# Altium footprint library LPHS-08-16-L-VP1-GP.PcbLib: 9 footprints
Each footprint in its own frame and in the unit in brackets; x right, y up, seen from the top. Pads: shape width x height; smd on the part's side, far side on the other; paste and mask are expansions set on the pad; w line width, h text height; cw(c..) or ccw(c..) is an arc to the next point about the centre after c.
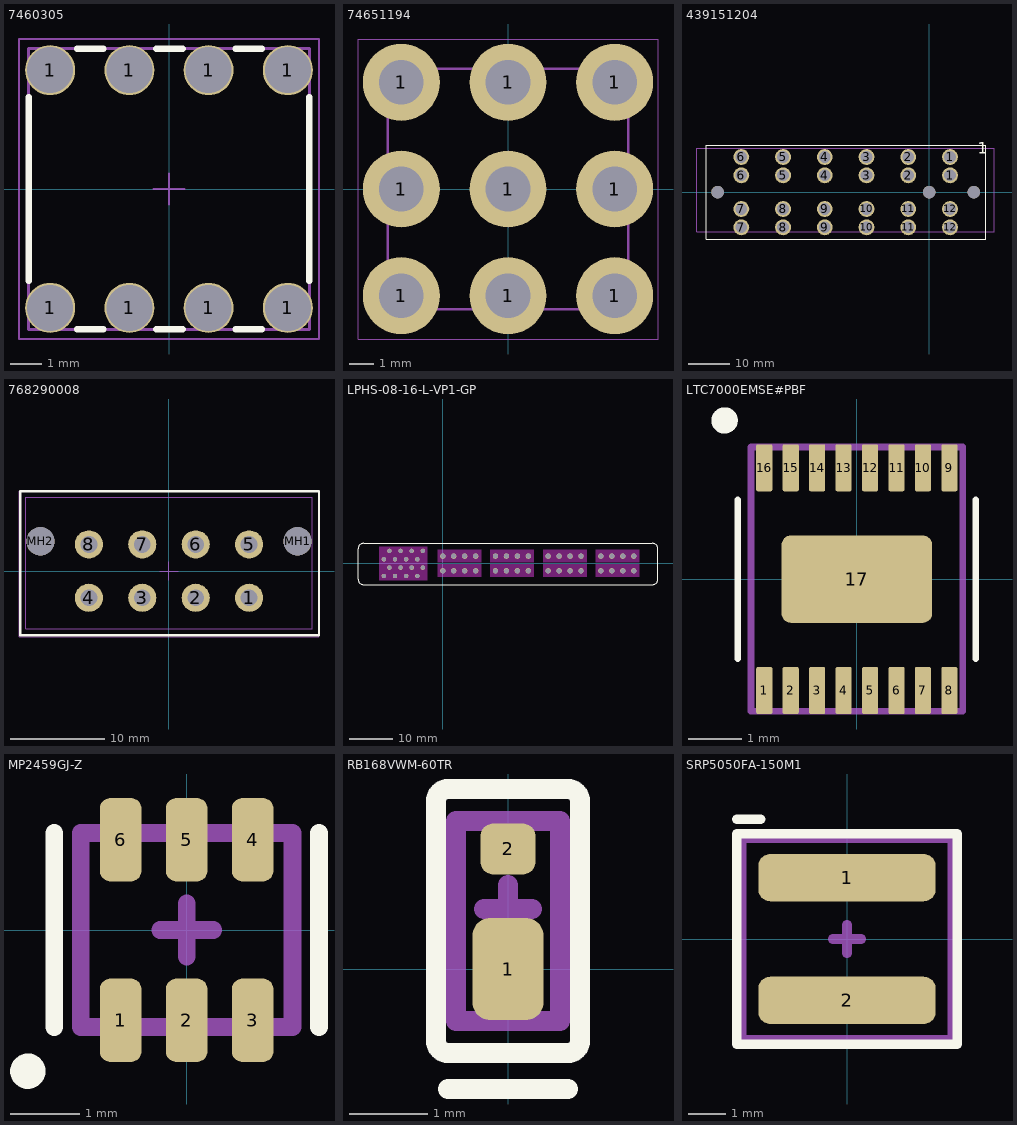
[diagram p0: the footprints below, top view; thin cyan lines are the x and y axes]

## 7460305 [mm] "WP-BUTR Bushes with two Rows Pin-Plate, M5, blind thr 6mm"
height 7
pads (8):
  round 1.6 hole 1.475: 1(-3.81,-3.81) 1(-3.81,3.81) 1(-1.27,-3.81) 1(-1.27,3.81) 1(1.27,-3.81) 1(1.27,3.81) 1(3.81,-3.81) 1(3.81,3.81)
Top Overlay:
  lines w0.2: -4.5,-2.95 -4.5,2.95 ; -2.95,-4.5 -2.1,-4.5 ; -2.95,4.5 -2.1,4.5 ; -0.41,-4.5 0.44,-4.5 ; -0.41,4.5 0.44,4.5 ; 2.13,-4.5 2.98,-4.5 ; 2.13,4.5 2.98,4.5 ; 4.5,-2.95 4.5,2.95
Mechanical 11:
  lines w0.1: -4.5,-4.5 4.5,-4.5 4.5,4.5 -4.5,4.5 -4.5,-4.5
  text ".Designator" at -1.75,-0.75 h1.5
Mechanical 13 (Mech13):
  lines w0.1: -4.5,-4.5 -4.5,4.5 4.5,4.5 4.5,-4.5 -4.5,-4.5
Mechanical 15:
  lines w0.05: -0.5,0 0.5,0 ; 0,-0.5 0,0.5 ; -4.81,-4.81 4.81,-4.81 4.81,4.81 -4.81,4.81 -4.81,-4.81
3D body "7460305.stp": height 7, standoff -3.5, extent -4.5,-4.5 4.5,4.5

## 74651194 [mm] "Shank, THR, 9 pins, 10x10mm, M4, thread 5mm"
height 8.5
pads (9):
  round 3.2 hole 1.85: 1(-4.435,-4.435) 1(-4.435,0) 1(-4.435,4.435) 1(0,-4.435) 1(0,0) 1(0,4.435) 1(4.435,-4.435) 1(4.435,0) 1(4.435,4.435)
Top Paste:
  drawing of 9 lines, arcs and shapes, not listed
Mechanical 11:
  lines w0.1: -5,-5 5,-5 5,5 -5,5 -5,-5
  text ".Designator" at -1.75,-0.75 h1.5
Mechanical 13 (Mech13):
  lines w0.1: -5,-5 -5,5 5,5 5,-5 -5,-5
Mechanical 15:
  lines w0.05: -0.5,0 0.5,0 ; 0,-0.5 0,0.5 ; -6.235,-6.235 6.235,-6.235 6.235,6.235 -6.235,6.235 -6.235,-6.235
3D body "74651194.stp": height 8.5, standoff -2.5, extent -5,-5 5,5

## 439151204 [mm]
pads (27):
  round 3.8 hole 2.8: 1(5,4.03) 1(5,8.43) 2(-5,4.03) 2(-5,8.43) 3(-15,4.03) 3(-15,8.43) 4(-25,4.03) 4(-25,8.43) 5(-35,4.03) 5(-35,8.43) 6(-45,4.03) 6(-45,8.43) 7(-45,-8.43) 7(-45,-4.03) 8(-35,-8.43) 8(-35,-4.03) 9(-25,-8.43) 9(-25,-4.03) 10(-15,-8.43) 10(-15,-4.03) 11(-5,-8.43) 11(-5,-4.03) 12(5,-8.43) 12(5,-4.03)
  round 3 hole 3 unplated: MH1(0,0) MH2(-50.71,0) MH2(10.7,0)
Top Overlay:
  lines w0.127: -53.467,-11.303 -53.467,11.303 13.589,11.303 13.589,-11.303 -53.467,-11.303
  text "1" at 11.684,8.255 h4.57
Mechanical 13 (Mech13):
  lines w0.127: -55.626,-9.525 15.621,-9.525 15.621,10.541 -55.626,10.541 -55.626,-9.525
3D body "439151204.stp": height 20.61, standoff -3.89, extent -55.65,-9.58 15.65,10.58

## 768290008 [mm]
pads (10):
  round 3 hole 1.8: 1(8.55,-2.85) 2(2.85,-2.85) 3(-2.85,-2.85) 4(-8.55,-2.85) 5(8.55,2.85) 6(2.85,2.85) 7(-2.85,2.85) 8(-8.55,2.85)
  round 3 hole 3 unplated: MH1(13.72,3.175) MH2(-13.72,3.175)
Top Overlay:
  lines w0.254: -15.875,-6.858 16.002,-6.858 16.002,8.509 -15.875,8.509 -15.875,-6.858
Mechanical 13 (Mech13):
  lines w0.127: -15.275,-6.152 15.256,-6.152 15.256,7.869 -15.275,7.869 -15.275,-6.152
Mechanical 15:
  lines w0.127: -1,0 0,0 ; 0,-1 0,0 ; 0,1 0,0 ; 1,0 0,0 ; -16,-7 16,-7 16,8.5 -16,8.5 -16,-7
3D body "768290008.stp": height 14.81, standoff -3.77, extent -15.242,-6.167 15.25,7.867

## LPHS-08-16-L-VP1-GP [mm]
pads (48):
  round 1 hole 0.92: 1(-13.42,-2.858) 2(-12.15,-0.953) 3(-10.88,-2.858) 4(-9.61,-0.953) 5(-8.34,-2.858) 6(-7.07,-0.953) 7(-5.8,-2.858) 8(-4.53,-0.953) 9(-13.42,0.953) 10(-12.15,2.857) 11(-10.88,0.953) 12(-9.61,2.857) 13(-8.34,0.953) 14(-7.07,2.857) 15(-5.8,0.953) 16(-4.53,2.857)
  round 1.22 hole 1.14: P01(0,-1.665) P01(2.5,-1.665) P01(5,-1.665) P01(7.5,-1.665) P02(0,1.665) P02(2.5,1.665) P02(5,1.665) P02(7.5,1.665) P03(12,-1.665) P03(14.5,-1.665) P03(17,-1.665) P03(19.5,-1.665) P04(12,1.665) P04(14.5,1.665) P04(17,1.665) P04(19.5,1.665) P05(24,-1.665) P05(26.5,-1.665) P05(29,-1.665) P05(31.5,-1.665) P06(24,1.665) P06(26.5,1.665) P06(29,1.665) P06(31.5,1.665) P07(36,-1.665) P07(38.5,-1.665) P07(41,-1.665) P07(43.5,-1.665) P08(36,1.665) P08(38.5,1.665) P08(41,1.665) P08(43.5,1.665)
Top Overlay:
  lines w0.254: -19.304,-3.556 ccw(c-18.034,-3.556) -18.034,-4.826 43.688,-4.826 47.752,-4.826 ccw(c47.752,-3.556) 49.022,-3.556 49.022,0.508 49.022,3.302 ccw(c47.752,3.302) 47.752,4.572 -14.478,4.572 -18.034,4.572 ccw(c-18.034,3.302) -19.304,3.302 -19.304,0.762 -19.304,-3.556
Keep-Out Layer:
  region: 34.857,-0.155 44.763,-0.155 44.763,-3.076 34.857,-3.076
  region: 34.857,3.175 44.763,3.175 44.763,0.254 34.857,0.254
  region: 22.857,-0.155 32.763,-0.155 32.763,-3.076 22.857,-3.076
  region: 22.857,3.175 32.763,3.175 32.763,0.254 22.857,0.254
  region: 10.857,3.175 20.763,3.175 20.763,0.254 10.857,0.254
  region: 10.857,-0.155 20.763,-0.155 20.763,-3.076 10.857,-3.076
  region: -1.143,-0.155 8.763,-0.155 8.763,-3.076 -1.143,-3.076
  region: -1.143,3.175 8.763,3.175 8.763,0.254 -1.143,0.254
  region: -14.478,3.81 -3.556,3.81 -3.556,-3.81 -14.478,-3.81
3D body "LPHS-08-16-L-VP1-GP.stp": height 18, standoff -2.58, extent -18.883,-4.214 48.672,4.106

## LTC7000EMSE#PBF [mm]
pads (17):
  rrect20% 0.305x0.889 smd: 1(-1.75,-2.105) 2(-1.25,-2.105) 3(-0.75,-2.105) 4(-0.25,-2.105) 5(0.25,-2.105) 6(0.75,-2.105) 7(1.25,-2.105) 8(1.75,-2.105) 9(1.75,2.105) 10(1.25,2.105) 11(0.75,2.105) 12(0.25,2.105) 13(-0.25,2.105) 14(-0.75,2.105) 15(-1.25,2.105) 16(-1.75,2.105)
  rrect20% 2.845x1.651 smd: 17(0,0)
Top Overlay:
  circle w0.254: c-2.5,3 r0.122
  lines w0.127: -2.25,-1.5 -2.25,1.5 ; 2.25,-1.5 2.25,1.5
Mechanical 13 (Mech13):
  lines w0.127: -2,-2.5 2,-2.5 2,2.5 -2,2.5 -2,-2.5
Mechanical 15:
  lines w0.127: -0.5,0 -0.25,0 0,0 ; 0,-0.5 0,0 ; 0,0.5 0,0 ; 0.5,0 0,0
3D body "SOP50P490X110-16-Linear-MSE-Package-16-Lead-Plastic-MSOP-Exposed-Die-Pad-dwg-05-08-1667-Rev-F.STEP": height 1.1, standoff 0, extent -2.019,-2.462 2.019,2.463

## MP2459GJ-Z [mm]
height 1
pads (6):
  rrect50% 0.6x1.2 smd: 1(-0.95,-1.3) 2(0,-1.3) 3(0.95,-1.3) 4(0.95,1.3) 5(0,1.3) 6(-0.95,1.3)
Top Overlay:
  circle w0.254: c-2.286,-2.032 r0.127
  lines w0.254: -1.905,-1.397 -1.905,1.397 ; 1.905,-1.397 1.905,1.397
Mechanical 13 (Mech13):
  lines w0.254: -1.524,-1.397 1.524,-1.397 1.524,1.397 -1.524,1.397 -1.524,-1.397
Mechanical 15:
  lines w0.254: -0.381,0 0.381,0 ; 0,-0.381 0,0.381
3D body "TSOT-6.step": height 1, standoff 0, extent -1.45,-1.4 1.45,1.4

## RB168VWM-60TR [mm]
pads (2):
  rrect50% 0.9x1.3 smd: 1(0,0)
  rrect50% 0.7x0.65 smd: 2(0,1.525)
Top Overlay:
  lines w0.254: -0.762,-1.524 0.762,-1.524 ; -0.914,-0.914 ccw(c-0.762,-0.914) -0.762,-1.067 0.762,-1.067 ccw(c0.762,-0.914) 0.914,-0.914 0.914,-0.61 0.914,2.134 ccw(c0.762,2.134) 0.762,2.286 0.61,2.286 -0.762,2.286 ccw(c-0.762,2.134) -0.914,2.134 -0.914,-0.61 -0.914,-0.914
Mechanical 13 (Mech13):
  lines w0.254: -0.66,-0.66 -0.66,1.88 0.66,1.88 0.66,-0.66 -0.66,-0.66
Mechanical 15:
  lines w0.254: -0.305,0.762 0,0.762 ; 0,0.457 0,0.762 ; 0,1.067 0,0.762 ; 0.305,0.762 0,0.762
3D body "PMDE.stp": height 0.95, standoff 0, extent -0.661,-0.65 0.639,1.85

## SRP5050FA-150M1 [mm]
height 4.8
pads (2):
  rrect50% 4.7x1.25 smd: 1(0,1.625) 2(0,-1.625)
Top Overlay:
  lines w0.254: -2.921,3.175 -2.286,3.175 ; -2.921,-2.794 2.921,-2.794 2.921,2.794 -2.921,2.794 -2.921,-2.794
Mechanical 13 (Mech13):
  lines w0.254: -2.794,-2.667 -2.794,2.667 2.794,2.667 2.794,-2.667 -2.794,-2.667
Mechanical 15:
  lines w0.254: -0.381,0 0,0 ; 0,-0.381 0,0 ; 0,0.381 0,0 ; 0.381,0 0,0
3D body "SRP5050FA.stp": height 4.78, standoff -0.03, extent -2.75,-2.65 2.75,2.65